# Altium footprint library J PCB lib.PcbLib: 461 footprints (part 4 of 29)
Each footprint in its own frame and in the unit in brackets; x right, y up, seen from the top. Pads: shape width x height; smd on the part's side, far side on the other; paste and mask are expansions set on the pad; w line width, h text height; cw(c..) or ccw(c..) is an arc to the next point about the centre after c.
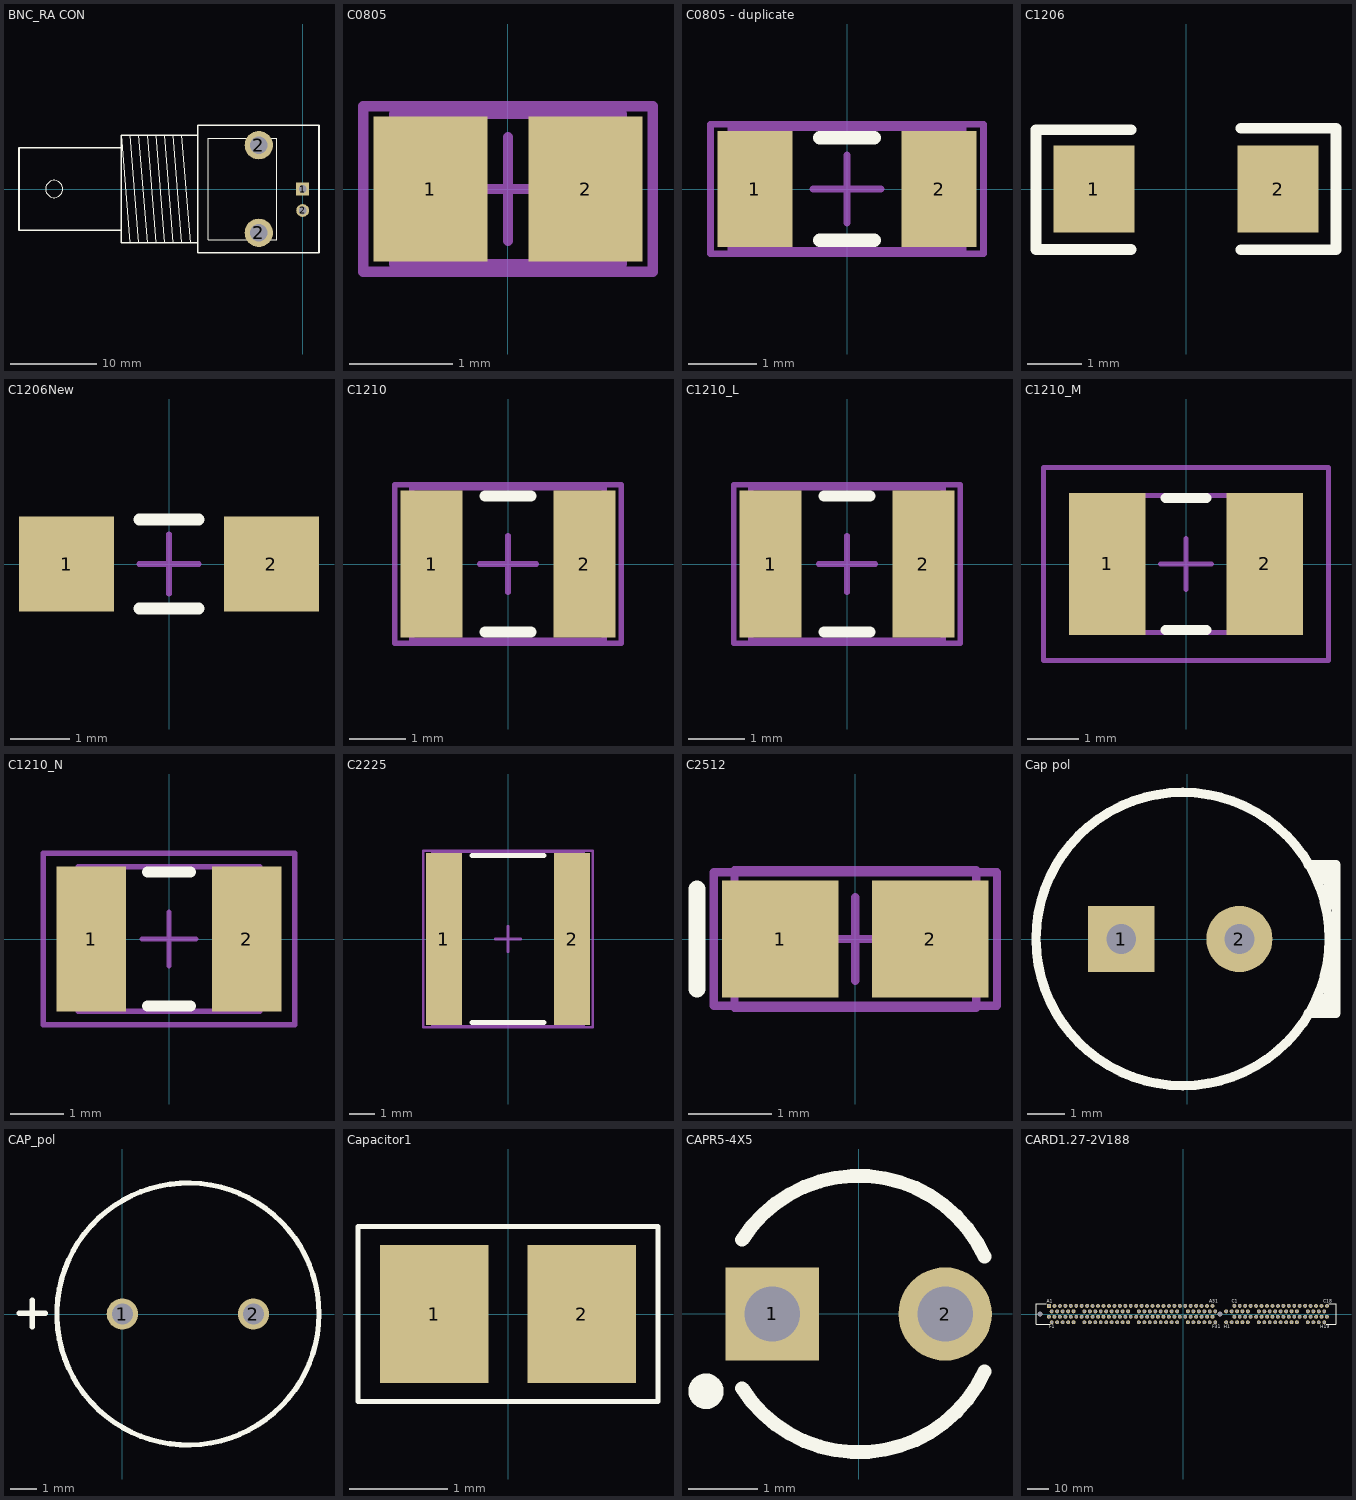
[diagram p3: the footprints below, top view; thin cyan lines are the x and y axes]

## BNC_RA CON [mm] "Connector; BNC Elbow"
pads (4):
  rect 1.5x1.5 hole 0.9: 1(0,0)
  round 3.3 hole 2: 2(-5.1,-5.1) 2(-5.1,5.1)
  round 1.5 hole 0.9: 2(0,-2.5)
Top Overlay:
  circle w0.025: c-28.9,0 r1
  lines w0.025: -20.1,-6.25 -21.1,6.25 ; -20.1,6.25 -19.1,-6.25 ; -19.1,6.25 -18.1,-6.25 ; -18.1,6.25 -17.1,-6.25 ; -17.1,6.25 -16.1,-6.25 ; -16.1,6.25 -15.1,-6.25 ; -15.1,6.25 -14.1,-6.25 ; -14.1,6.25 -13.1,-6.25 ; -21.1,-4.8 -33,-4.8 -33,4.8 -21.1,4.8 ; -21.1,-4.8 -21.1,4.8 ; -21.1,-4.8 -21.1,-6.25 -12.2,-6.25 ; -21.1,4.8 -21.1,6.25 ; -21.1,6.25 -12.2,6.25 ; -12.2,-6.25 -12.2,6.25 ; -12.2,-6.25 -12.2,-7.4 1.9,-7.4 1.9,7.4 -12.2,7.4 -12.2,6.25 ; -11,-5.9 -3,-5.9 -3,5.9 -11,5.9 -11,-5.9
  lines w0.2: -21.1,-4.8 -21.1,4.8 ; -21.1,-4.8 -33,-4.8 -33,4.8 -21.1,4.8 ; -21.1,-4.8 -21.1,-6.25 -12.2,-6.25 ; -21.1,4.8 -21.1,6.25 -12.2,6.25 ; -12.2,-6.25 -12.2,6.25 ; -12.2,-6.25 -12.2,-7.4 1.9,-7.4 1.9,7.4 -12.2,7.4 -12.2,6.25

## C0805 [mm] "Chip Capacitor, Body 2.0x1.3mm, IPC High Density"
height 1.4
pads (2):
  rect 1.1x1.4 smd: 1(-0.75,0) 2(0.75,0)
Mechanical 13:
  lines w0.1: -1.1,-0.725 -1.1,0.725 1.1,0.725 1.1,-0.725 -1.1,-0.725
Mechanical 15:
  lines w0.1: -0.5,0 0.5,0 ; 0,-0.5 0,0.5 ; -1.4,-0.8 -1.4,0.8 1.4,0.8 1.4,-0.8 -1.4,-0.8
3D body: height 1.4, standoff 0, extent -1.1,-0.725 1.1,0.725

## C0805 - duplicate [mm] "Chip Capacitor, Body 3.2x1.6mm, IPC High Density"
height 1.3
pads (2):
  rect 1.1x1.7 smd: 1(-1.35,0) 2(1.35,0)
Top Overlay:
  lines w0.2: -0.4,-0.75 0.4,-0.75 ; -0.4,0.75 0.4,0.75
Mechanical 13:
  lines w0.1: -1.7,-0.9 1.7,-0.9 1.7,0.9 -1.7,0.9 -1.7,-0.9
Mechanical 15:
  lines w0.1: -0.5,0 0.5,0 ; 0,-0.5 0,0.5 ; -2,-0.95 2,-0.95 2,0.95 -2,0.95 -2,-0.95
3D body: height 1.3, standoff 0, extent -1.7,-0.9 1.7,0.9

## C1206 [mm] "ChipResistor/ Capcitor"
height 2.54
pads (2):
  rect 1.5x1.6 smd: 1(-1.7,0) 2(1.7,0)
Top Overlay:
  lines w0.2: -1.016,-1.118 -1.229,-1.118 -2.086,-1.118 -2.769,-1.118 -2.769,1.092 -1.016,1.092 ; 1.016,-1.122 2.769,-1.122 2.769,1.122 1.016,1.122

## C1206New [mm] "Chip Capacitor, Body 3.2x1.6mm, IPC High Density"
height 1.3
pads (2):
  rect 1.6x1.6 smd: 1(-1.72,0) 2(1.72,0)
Top Overlay:
  lines w0.2: -0.5,-0.75 0.5,-0.75 ; -0.5,0.75 0.5,0.75
Mechanical 15:
  lines w0.1: -0.5,0 0.5,0 ; 0,-0.5 0,0.5

## C1210 [mm] "Chip Capacitor, Body 3.2x2.5mm, IPC High Density"
height 1.3
pads (2):
  rect 1.1x2.6 smd: 1(-1.35,0) 2(1.35,0)
Top Overlay:
  lines w0.2: -0.4,-1.2 0.4,-1.2 ; -0.4,1.2 0.4,1.2
Mechanical 13:
  lines w0.1: -1.7,-1.35 -1.7,1.35 1.7,1.35 1.7,-1.35 -1.7,-1.35
Mechanical 15:
  lines w0.1: -0.5,0 0.5,0 ; 0,-0.5 0,0.5 ; -2,-1.4 -2,1.4 2,1.4 2,-1.4 -2,-1.4
3D body: height 1.3, standoff 0, extent -1.7,-1.35 1.7,1.35

## C1210_L [mm] "Chip Capacitor, Body 3.2x2.5mm, IPC High Density"
height 1.5
pads (2):
  rect 1.1x2.6 smd: 1(-1.35,0) 2(1.35,0)
Top Overlay:
  lines w0.2: -0.4,-1.2 0.4,-1.2 ; -0.4,1.2 0.4,1.2
Mechanical 13:
  lines w0.1: -1.7,-1.35 1.7,-1.35 1.7,1.35 -1.7,1.35 -1.7,-1.35
Mechanical 15:
  lines w0.1: -0.5,0 0.5,0 ; 0,-0.5 0,0.5 ; -2,-1.4 2,-1.4 2,1.4 -2,1.4 -2,-1.4
3D body: height 1.5, standoff 0, extent -1.7,-1.35 1.7,1.35

## C1210_M [mm] "Chip Capacitor, Body 3.2x2.5mm, IPC Low Density"
height 1.5
pads (2):
  rect 1.5x2.8 smd: 1(-1.55,0) 2(1.55,0)
Top Overlay:
  lines w0.2: -0.4,-1.3 0.4,-1.3 ; -0.4,1.3 0.4,1.3
Mechanical 13:
  lines w0.1: -1.7,-1.35 1.7,-1.35 1.7,1.35 -1.7,1.35 -1.7,-1.35
Mechanical 15:
  lines w0.1: -0.5,0 0.5,0 ; 0,-0.5 0,0.5 ; -2.8,-1.9 2.8,-1.9 2.8,1.9 -2.8,1.9 -2.8,-1.9
3D body: height 1.5, standoff 0, extent -1.7,-1.35 1.7,1.35

## C1210_N [mm] "Chip Capacitor, Body 3.2x2.5mm, IPC Medium Density"
height 1.5
pads (2):
  rect 1.3x2.7 smd: 1(-1.45,0) 2(1.45,0)
Top Overlay:
  lines w0.2: -0.4,-1.25 0.4,-1.25 ; -0.4,1.25 0.4,1.25
Mechanical 13:
  lines w0.1: -1.7,-1.35 -1.7,1.35 1.7,1.35 1.7,-1.35 -1.7,-1.35
Mechanical 15:
  lines w0.1: -0.5,0 0.5,0 ; 0,-0.5 0,0.5 ; -2.35,-1.6 -2.35,1.6 2.35,1.6 2.35,-1.6 -2.35,-1.6
3D body: height 1.5, standoff 0, extent -1.7,-1.35 1.7,1.35

## C2225 [mm] "Chip Capacitor, Body 5.7x6.4mm, IPC High Density"
height 1.4
pads (2):
  rect 1.4x6.7 smd: 1(-2.5,0) 2(2.5,0)
Top Overlay:
  lines w0.2: -1.4,-3.25 1.4,-3.25 ; -1.4,3.25 1.4,3.25
Mechanical 13:
  lines w0.1: -2.95,-3.4 -2.95,3.4 2.95,3.4 2.95,-3.4 -2.95,-3.4
Mechanical 15:
  lines w0.1: -0.5,0 0.5,0 ; 0,-0.5 0,0.5 ; -3.3,-3.45 -3.3,3.45 3.3,3.45 3.3,-3.45 -3.3,-3.45
3D body: height 1.4, standoff 0, extent -2.95,-3.4 2.95,3.4

## C2512 [mm] "Chip Capacitor, Body 2.54x1.27mm, IPC High Density"
height 1.3
pads (2):
  rect 1.4x1.4 smd: 1(-0.9,0) 2(0.9,0)
Top Overlay:
  lines w0.2: -1.9,-0.6 -1.9,0.6
Mechanical 13:
  lines w0.1: -1.45,-0.825 1.45,-0.825 1.45,0.825 -1.45,0.825 -1.45,-0.825
Mechanical 15:
  lines w0.1: -0.5,0 0.5,0 ; 0,-0.5 0,0.5 ; -1.7,-0.8 1.7,-0.8 1.7,0.8 -1.7,0.8 -1.7,-0.8
3D body: height 1.3, standoff 0, extent -1.45,-0.825 1.45,0.825

## Cap pol [mm]
pads (2):
  rect 1.778x1.778 hole 0.8: 1(-1.77,0)
  round 1.778 hole 0.8: 2(1.405,0)
Top Overlay:
  circle w0.254: c-0.119,0 r3.939
  lines w0.254: 3.25,-2 4,-2 4,2 3.25,2 ; 3.6,-1.6 3.8,-1.6 ; 3.6,1.9 3.6,1.6 3.7,1.6 ; 3.8,0.9 3.8,1.9 ; 3.9,-0.8 3.9,-1.8 3.6,-1.8 3.8,-1.6 ; 3.8,-1.6 3.8,-1.3 3.8,-1.6

## CAP_pol [mm]
pads (2):
  round 1.2 hole 0.8: 1(0,0) 2(5,0)
Top Overlay:
  circle w0.2: c2.5,0 r5
  lines w0.2: -3.946,0.025 -2.93,0.025 ; -3.438,-0.483 -3.438,0.533

## Capacitor1 [mm] "0805"
pads (2):
  rect 1.1x1.4 smd: 1(-0.75,0) 2(0.75,0)
Top Overlay:
  lines w0.051: -1.524,-0.889 1.524,-0.889 1.524,0.889 -1.524,0.889 -1.524,-0.889

## CAPR5-4X5 [mm] "Capacitor; 2 Leads"
height 12
pads (2):
  rect 1.35x1.35 hole 0.8: 1(-1.25,0)
  round 1.35 hole 0.8: 2(1.25,0)
Top Overlay:
  circle w0.254: c-2.21,-1.118 r0.13
  lines w0.2: -1.687,-1.075 ccw(c0,0) 1.819,-0.832 ; -1.687,1.075 cw(c0,0) 1.819,0.832

## CARD1.27-2V188 [mm] "Connector; EISA, Thru-Hole; 188 Position; Vertical; Pitch 1.27 mm"
height 15.49
pads (190):
  rect 1.85x1.85 hole 1.1: A1(-62.685,3.81)
  round 1.85 hole 1.1: A2(-60.145,3.81) A3(-57.605,3.81) A4(-55.065,3.81) A5(-52.525,3.81) A6(-49.985,3.81) A7(-47.445,3.81) A8(-44.905,3.81) A9(-42.365,3.81) A10(-39.825,3.81) A11(-37.285,3.81) A12(-34.745,3.81) A13(-32.205,3.81) A14(-29.665,3.81) A15(-27.125,3.81) A16(-24.585,3.81) A17(-22.045,3.81) A18(-19.505,3.81) A19(-16.965,3.81) A20(-14.425,3.81) A21(-11.885,3.81) A22(-9.345,3.81) A23(-6.805,3.81) A24(-4.265,3.81) A25(-1.725,3.81) A26(0.815,3.81) A27(3.355,3.81) A28(5.895,3.81) A29(8.435,3.81) A30(10.975,3.81) A31(13.515,3.81) B1(-62.685,-1.27) B2(-60.145,-1.27) B3(-57.605,-1.27) B4(-55.065,-1.27) B5(-52.525,-1.27) B6(-49.985,-1.27) B7(-47.445,-1.27) B8(-44.905,-1.27) B9(-42.365,-1.27) B10(-39.825,-1.27) B11(-37.285,-1.27) B12(-34.745,-1.27) B13(-32.205,-1.27) B14(-29.665,-1.27) B15(-27.125,-1.27) B16(-24.585,-1.27) B17(-22.045,-1.27) B18(-19.505,-1.27) B19(-16.965,-1.27) B20(-14.425,-1.27) B21(-11.885,-1.27) B22(-9.345,-1.27) B23(-6.805,-1.27) B24(-4.265,-1.27) B25(-1.725,-1.27) B26(0.815,-1.27) B27(3.355,-1.27) B28(5.895,-1.27) B29(8.435,-1.27) B30(10.975,-1.27) B31(13.515,-1.27) C1(23.675,3.81) C2(26.215,3.81) C3(28.755,3.81) C4(31.295,3.81) C5(33.835,3.81) C6(36.375,3.81) C7(38.915,3.81) C8(41.455,3.81) C9(43.995,3.81) C10(46.535,3.81) C11(49.075,3.81) C12(51.615,3.81) C13(54.155,3.81) C14(56.695,3.81) C15(59.235,3.81) C16(61.775,3.81) C17(64.315,3.81) C18(66.855,3.81) D1(23.675,-1.27) D2(26.215,-1.27) D3(28.755,-1.27) D4(31.295,-1.27) D5(33.835,-1.27) D6(36.375,-1.27) D7(38.915,-1.27) D8(41.455,-1.27) D9(43.995,-1.27) D10(46.535,-1.27) D11(49.075,-1.27) D12(51.615,-1.27) D13(54.155,-1.27) D14(56.695,-1.27) D15(59.235,-1.27) D16(61.775,-1.27) D17(64.315,-1.27) D18(66.855,-1.27) E1(-61.415,1.27) E2(-58.875,1.27) E3(-56.335,1.27) E4(-53.795,1.27) E5(-51.255,1.27) E7(-46.175,1.27) E8(-43.635,1.27) E9(-41.095,1.27) E10(-38.555,1.27) E11(-36.015,1.27) E12(-33.475,1.27) E13(-30.935,1.27) E14(-28.395,1.27) E15(-25.855,1.27) E17(-20.775,1.27) E18(-18.235,1.27) E19(-15.695,1.27) E20(-13.155,1.27) E21(-10.615,1.27) E22(-8.075,1.27) E23(-5.535,1.27) E24(-2.995,1.27) E26(2.085,1.27) E27(4.625,1.27) E28(7.165,1.27) E29(9.705,1.27) E30(12.245,1.27) E31(14.785,1.27) F1(-61.415,-3.81) F2(-58.875,-3.81) F3(-56.335,-3.81) F4(-53.795,-3.81) F5(-51.255,-3.81) F7(-46.175,-3.81) F8(-43.635,-3.81) F9(-41.095,-3.81) F10(-38.555,-3.81) F11(-36.015,-3.81) F12(-33.475,-3.81) F13(-30.935,-3.81) F14(-28.395,-3.81) F15(-25.855,-3.81) F17(-20.775,-3.81) F18(-18.235,-3.81) F19(-15.695,-3.81) F20(-13.155,-3.81) F21(-10.615,-3.81) F22(-8.075,-3.81) F23(-5.535,-3.81) F24(-2.995,-3.81) F26(2.085,-3.81) F27(4.625,-3.81) F28(7.165,-3.81) F29(9.705,-3.81) F30(12.245,-3.81) F31(14.785,-3.81) G1(19.865,1.27) G2(22.405,1.27) G3(24.945,1.27) G4(27.485,1.27) G5(30.025,1.27) G7(35.105,1.27) G8(37.645,1.27) G9(40.185,1.27) G10(42.725,1.27) G11(45.265,1.27) G12(47.805,1.27) G13(50.345,1.27) G14(52.885,1.27) G16(57.965,1.27) G17(60.505,1.27) G18(63.045,1.27) G19(65.585,1.27) H1(19.865,-3.81) H2(22.405,-3.81) H3(24.945,-3.81) H4(27.485,-3.81) H5(30.025,-3.81) H7(35.105,-3.81) H8(37.645,-3.81) H9(40.185,-3.81) H10(42.725,-3.81) H11(45.265,-3.81) H12(47.805,-3.81) H13(50.345,-3.81) H14(52.885,-3.81) H16(57.965,-3.81) H17(60.505,-3.81) H18(63.045,-3.81) H19(65.585,-3.81)
  round 2.14 hole 2.45: MH1(-66.855,0) MH2(16.965,0)
Top Overlay:
  lines w0.2: -64.06,4.76 -68.735,4.76 -68.735,-4.76 -62.345,-4.76 ; 66.515,-4.76 71.065,-4.76 71.065,4.76 67.785,4.76
  text "A1" at -63.785,5.26 h1.5
  text "A31" at 12.015,5.26 h1.5
  text "F31" at 13.285,-6.71 h1.5
  text "F1" at -62.515,-6.71 h1.5
  text "H1" at 18.765,-6.71 h1.5
  text "C1" at 22.575,5.26 h1.5
  text "H19" at 63.835,-6.71 h1.5
  text "C18" at 65.105,5.26 h1.5